# Altium schematic symbol library STM32F030F4P6.SchLib: 1 symbol
Pins are listed as number, name and electrical type; pins without a type are passive.

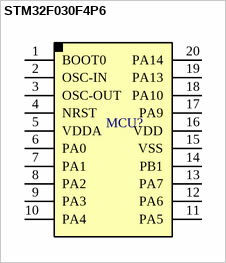
[diagram p0: symbol STM32F030F4P6]

## STM32F030F4P6
designator MCU?  (value not drawn)
footprint STM32F030F4P6
pins: 1 BOOT0, 2 OSC-IN, 3 OSC-OUT, 4 NRST, 5 VDDA, 6 PA0, 7 PA1, 8 PA2, 9 PA3, 10 PA4, 11 PA5, 12 PA6, 13 PA7, 14 PB1, 15 VSS, 16 VDD, 17 PA9, 18 PA10, 19 PA13, 20 PA14